# EAGLE library part LT3575 (library PowerProducts)
LT-Spice library generated with : ltspice.ulp from: D:/Program Files (x86)/LTC/LTspiceIV/lib/sym/PowerProducts/LT3579*.asy at 07.10.2012 16:12:01
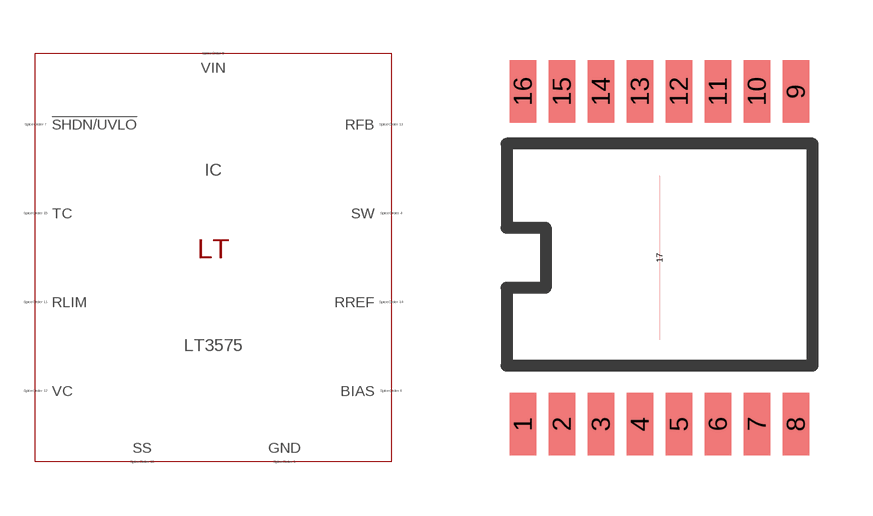
[diagram p75: symbol with the pads of TSSOP16BA(FE); footprint TSSOP16BA(FE)]

Designator prefix IC

## LT3575 (SPICEMODEL: LT3575.sub; SPICEPREFIX: X; VALUE2: LT3575)  [TSSOP16BA(FE)]
2  VIN  pas
3  SW  pas
4  SW  pas
5  BIAS  pas
6  !SHDN/UVLO  pas
7  SS  pas
8  RLIM  pas
9  VC  pas
10  RFB  pas
11  RREF  pas
12  TC  pas
13  GND  pas
14  GND  pas
17  GND  pas

## Footprint TSSOP16BA(FE) (pad centres in mm)
Package generated from: TSSOP16BA(FE).asc (!PADS-POWERPCB-V5.0-BASIC! DESIGN DATABASE ASCII FILE 1.0) with :import-pads-powerpcb-v5.ulp Version 1.0.1 at 04.10.2012 14:11:39
smd 0.66 x 1.575: 1 -3.413,-4.162; 2 -2.438,-4.162; 3 -1.462,-4.162; 4 -0.487,-4.162; 5 0.487,-4.162; 6 1.462,-4.162; 7 2.438,-4.162; 8 3.413,-4.162; 9 3.413,4.162; 10 2.438,4.162; 11 1.462,4.162; 12 0.487,4.162; 13 -0.487,4.162; 14 -1.462,4.162; 15 -2.438,4.162; 16 -3.413,4.162
smd 0 x 4.11: 17 0,0